# Altium footprint library 5V Voltage Regulators.PcbLib: 1 footprints
Each footprint in its own frame and in the unit in brackets; x right, y up, seen from the top. Pads: shape width x height; smd on the part's side, far side on the other; paste and mask are expansions set on the pad; w line width, h text height; cw(c..) or ccw(c..) is an arc to the next point about the centre after c.
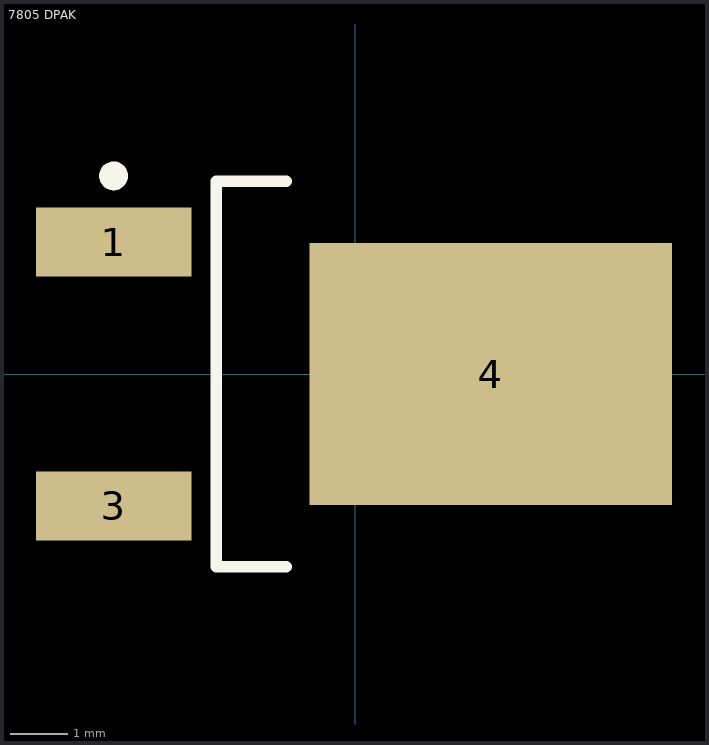
[diagram p0: the footprint, top view; thin cyan lines are the x and y axes]

## 7805 DPAK [mm] "Linear Voltage Regulator IC  1 Output  1A TO-252-2"
height 2.38
pads (3):
  rect 2.7x1.2 smd: 1(-4.2,2.29) 3(-4.2,-2.29)
  rect 6.3x4.55 smd: 4(2.35,0)
Top Overlay:
  circle w0.25: c-4.2,3.44 r0.125
  lines w0.2: -1.2,-3.35 -2.413,-3.35 -2.413,3.35 -1.2,3.35
Mechanical 15:
  lines w0.1: -0.5,0 0.5,0 ; 0,-0.5 0,0.5
3D body "DPAK-1.step": height 2.44, standoff 0.03, extent -5.176,-3.27 4.763,3.27